# EAGLE library part OMAT_IC_2_LM75BD (library cpu)
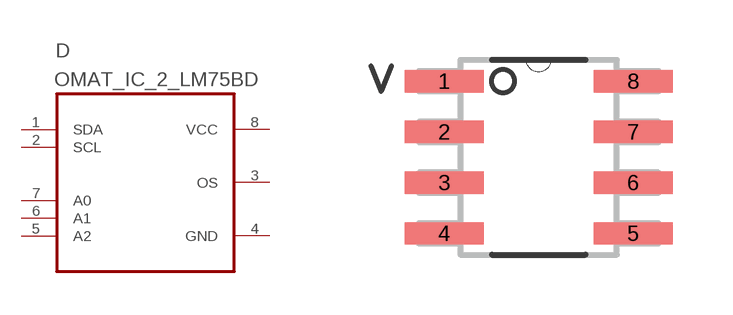
[diagram p4: symbol with the pads of OMAT_IC_2_SOIC8-N_MC; footprint OMAT_IC_2_SOIC8-N_MC]

Designator prefix D

## OMAT_IC_2_LM75BD  [OMAT_IC_2_SOIC8-N_MC]
1  SDA  pwr
2  SCL
3  OS
4  GND  in
5  A2
6  A1
7  A0
8  VCC

## Footprint OMAT_IC_2_SOIC8-N_MC (pad centres in mm)
smd 1.981 x 0.559: 1 -2.362,1.905; 2 -2.362,0.635; 3 -2.362,-0.635; 4 -2.362,-1.905; 5 2.362,-1.905; 6 2.362,-0.635; 7 2.362,0.635; 8 2.362,1.905